# Altium footprint library 0508.PcbLib: 1 footprints
Each footprint in its own frame and in the unit in brackets; x right, y up, seen from the top. Pads: shape width x height; smd on the part's side, far side on the other; paste and mask are expansions set on the pad; w line width, h text height; cw(c..) or ccw(c..) is an arc to the next point about the centre after c.
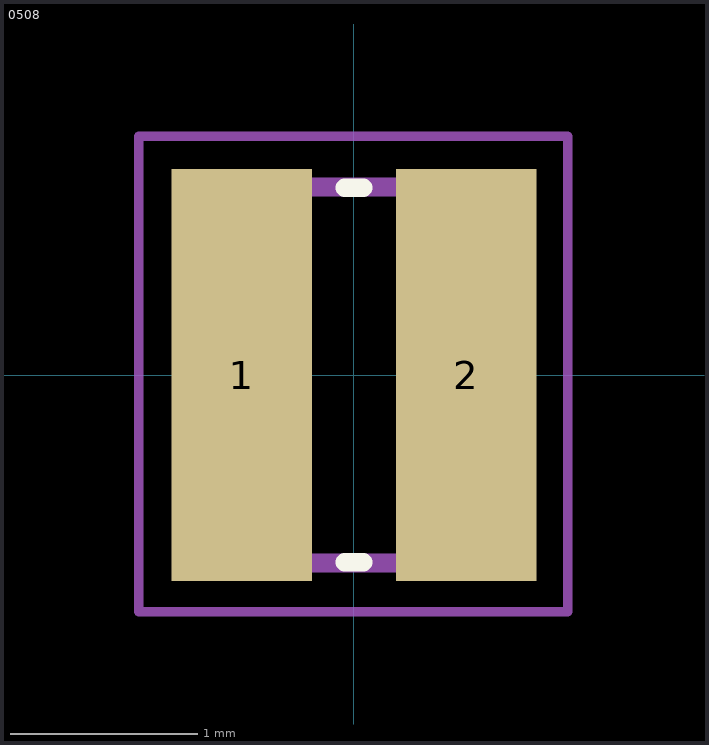
[diagram p0: the footprint, top view; thin cyan lines are the x and y axes]

## 0508 [mm]
pads (2):
  rect 0.75x2.2 smd: 1(-0.6,0) 2(0.6,0)
Top Overlay:
  lines w0.1: -0.05,-1 0.05,-1 ; -0.05,1 0.05,1
Mechanical 13:
  lines w0.1: -0.62,-1.005 -0.62,1.005 0.62,1.005 0.62,-1.005 -0.62,-1.005
Mechanical 15:
  lines w0.051: -1.15,-1.266 1.141,-1.266 1.141,1.276 -1.15,1.276 -1.15,-1.266
3D body: height 0.56, standoff 0, extent -0.26,-1.005 0.26,1.005
3D body: height 0.56, standoff 0, extent -0.62,-1.005 -0.26,1.005
3D body: height 0.56, standoff 0, extent 0.26,-1.005 0.62,1.005